# Altium footprint library SOD-123.PcbLib: 1 footprints
Each footprint in its own frame and in the unit in brackets; x right, y up, seen from the top. Pads: shape width x height; smd on the part's side, far side on the other; paste and mask are expansions set on the pad; w line width, h text height; cw(c..) or ccw(c..) is an arc to the next point about the centre after c.
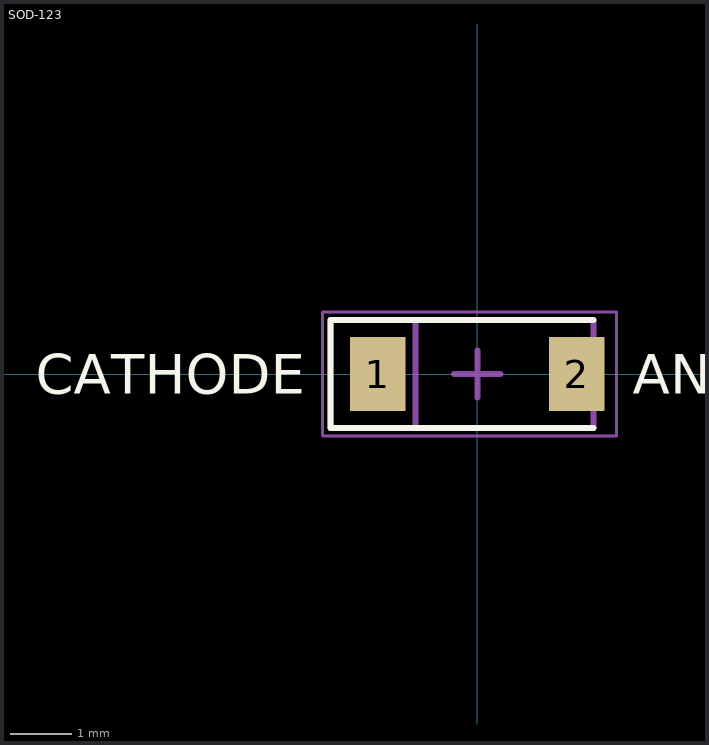
[diagram p0: the footprint, top view; thin cyan lines are the x and y axes]

## SOD-123 [mm]
pads (2):
  rect 0.91x1.22 smd: 1(-1.635,0) 2(1.635,0)
Top Overlay:
  lines w0.1: 1.905,-0.889 -2.413,-0.889 -2.413,0.889 1.905,0.889
  text "ANODE" at 2.548,-0.325 h0.65
  text "CATHODE" at -7.246,-0.325 h0.65
Mechanical 1:
  lines w0.1: -1.016,-0.889 -1.016,0.889 ; -2.413,-0.889 -2.413,0.889 1.905,0.889 1.905,-0.889 -2.413,-0.889
  text ".Designator" at -0.891,-0.293 h0.65
Mechanical 2:
  lines w0.05: -2.54,-1.016 2.286,-1.016 2.286,1.016 -2.54,1.016 -2.54,-1.016
  lines w0.1: -0.381,0 0,0 ; 0,-0.381 0,0 ; 0,0.381 0,0 ; 0.381,0 0,0
3D body "SOD-123_ONS.step": height 1.35, standoff 0, extent -1.93,-0.902 1.93,0.902